# Altium footprint library 805_24P.PcbLib: 1 footprints
Each footprint in its own frame and in the unit in brackets; x right, y up, seen from the top. Pads: shape width x height; smd on the part's side, far side on the other; paste and mask are expansions set on the pad; w line width, h text height; cw(c..) or ccw(c..) is an arc to the next point about the centre after c.

## 805_24P [mm]
3D body "805 Series 3.96Mm Pitch 24P PCB Mount (2).STEP": height 5, standoff -5, extent -34.5,-14.6 34.5,2.7